# EAGLE library part PICAXE18M2 (library picaxe18m2)
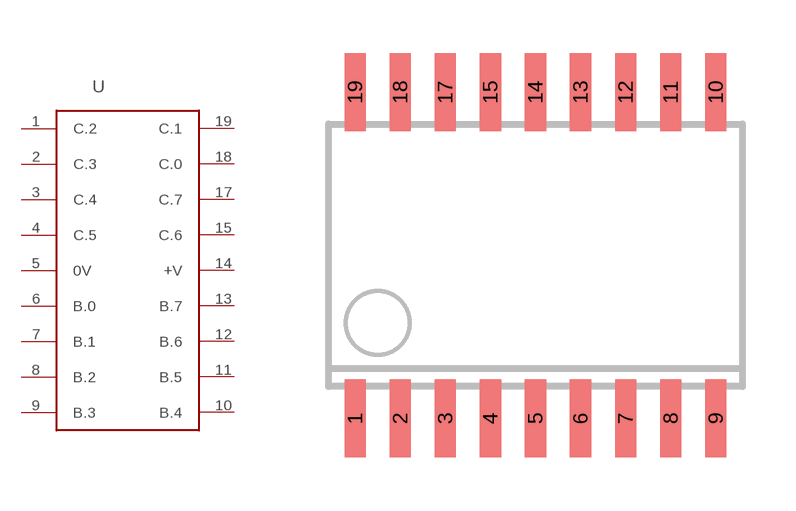
[diagram p0: symbol with the pads of PICAXE18M2; footprint PICAXE18M2]

Designator prefix -

## PICAXE18M2  [PICAXE18M2]
1  C.2
2  C.3
3  C.4
4  C.5
5  0V
6  B.0
7  B.1
8  B.2
9  B.3
10  B.4
11  B.5
12  B.6
13  B.7
14  +V
15  C.6
17  C.7
18  C.0
19  C.1

## Footprint PICAXE18M2 (pad centres in mm)
smd 0.6 x 2.2: 1 -5.715,-4.6; 2 -4.445,-4.6; 3 -3.175,-4.6; 4 -1.905,-4.6; 5 -0.635,-4.6; 6 0.635,-4.6; 7 1.905,-4.6; 8 3.175,-4.6; 9 4.445,-4.6; 10 4.445,4.6; 11 3.175,4.6; 12 1.905,4.6; 13 0.635,4.6; 14 -0.635,4.6; 15 -1.905,4.6; 17 -3.175,4.6; 18 -4.445,4.6; 19 -5.715,4.6